# Altium schematic symbol library Resistors$.SchLib: 1243 symbols (part 2 of 7)
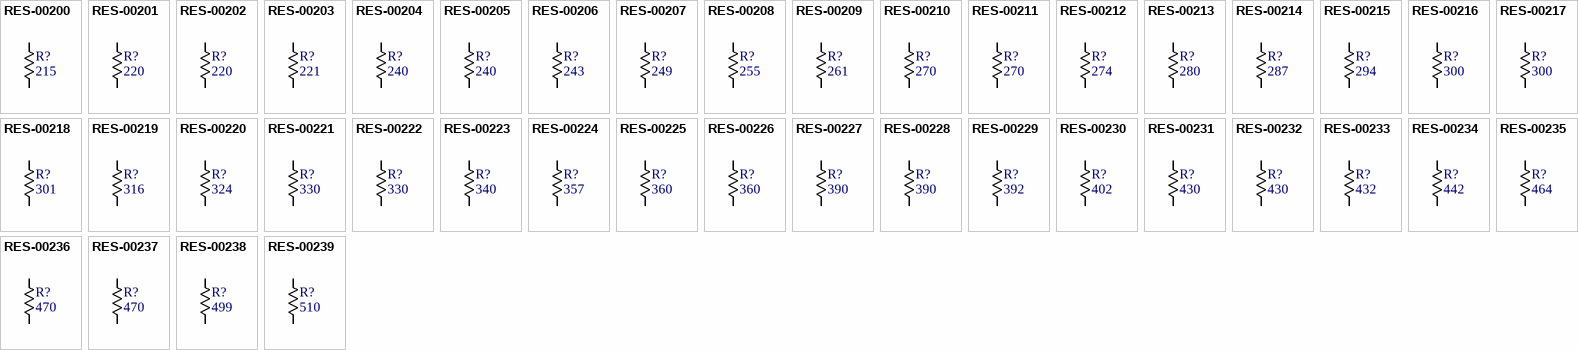
[diagram p33: symbols RES-00200 to RES-00239]

## RES-00209
designator R?, comment 261
RES SMD 261 OHM 1% 1/8W 0805; Part Number: RES-00209; Manufacturer: Rohm Semiconductor; Manufacturer PN: KTR10EZPF2610; Power Rating: 0.125W; Resistance: 261; Tolerance: 1%
footprint chip_0805
pins: 1, 2

## RES-00210
designator R?, comment 270
RES SMD 270 OHM 1% 1/4W 0603; Part Number: RES-00210; Manufacturer: Panasonic; Manufacturer PN: ERJ-PA3F2700V; Power Rating: 0.25W; Resistance: 270; Tolerance: 1%
footprint chip_0603
pins: 1, 2

## RES-00211
designator R?, comment 270
RES SMD 270 OHM 1% 1/8W 0805; Part Number: RES-00211; Manufacturer: Rohm Semiconductor; Manufacturer PN: KTR10EZPF2700; Power Rating: 0.125W; Resistance: 270; Tolerance: 1%
footprint chip_0805
pins: 1, 2

## RES-00212
designator R?, comment 274
RES SMD 274 OHM 1% 1/8W 0805; Part Number: RES-00212; Manufacturer: Rohm Semiconductor; Manufacturer PN: KTR10EZPF2740; Power Rating: 0.125W; Resistance: 274; Tolerance: 1%
footprint chip_0805
pins: 1, 2

## RES-00213
designator R?, comment 280
RES SMD 280 OHM 1% 1/8W 0805; Part Number: RES-00213; Manufacturer: Rohm Semiconductor; Manufacturer PN: KTR10EZPF2800; Power Rating: 0.125W; Resistance: 280; Tolerance: 1%
footprint chip_0805
pins: 1, 2

## RES-00214
designator R?, comment 287
RES SMD 287 OHM 1% 1/8W 0805; Part Number: RES-00214; Manufacturer: Rohm Semiconductor; Manufacturer PN: KTR10EZPF2870; Power Rating: 0.125W; Resistance: 287; Tolerance: 1%
footprint chip_0805
pins: 1, 2

## RES-00215
designator R?, comment 294
RES SMD 294 OHM 1% 1/8W 0805; Part Number: RES-00215; Manufacturer: Rohm Semiconductor; Manufacturer PN: KTR10EZPF2940; Power Rating: 0.125W; Resistance: 294; Tolerance: 1%
footprint chip_0805
pins: 1, 2

## RES-00216
designator R?, comment 300
RES SMD 300 OHM 1% 1/4W 0603; Part Number: RES-00216; Manufacturer: Panasonic; Manufacturer PN: ERJ-PA3F3000V; Power Rating: 0.25W; Resistance: 300; Tolerance: 1%
footprint chip_0603
pins: 1, 2

## RES-00217
designator R?, comment 300
RES SMD 300 OHM 1% 1/8W 0805; Part Number: RES-00217; Manufacturer: Rohm Semiconductor; Manufacturer PN: KTR10EZPF3000; Power Rating: 0.125W; Resistance: 300; Tolerance: 1%
footprint chip_0805
pins: 1, 2

## RES-00218
designator R?, comment 301
RES SMD 301 OHM 1% 1/8W 0805; Part Number: RES-00218; Manufacturer: Rohm Semiconductor; Manufacturer PN: KTR10EZPF3010; Power Rating: 0.125W; Resistance: 301; Tolerance: 1%
footprint chip_0805
pins: 1, 2

## RES-00219
designator R?, comment 316
RES SMD 316 OHM 1% 1/8W 0805; Part Number: RES-00219; Manufacturer: Rohm Semiconductor; Manufacturer PN: KTR10EZPF3160; Power Rating: 0.125W; Resistance: 316; Tolerance: 1%
footprint chip_0805
pins: 1, 2

## RES-00220
designator R?, comment 324
RES SMD 324 OHM 1% 1/8W 0805; Part Number: RES-00220; Manufacturer: Rohm Semiconductor; Manufacturer PN: KTR10EZPF3240; Power Rating: 0.125W; Resistance: 324; Tolerance: 1%
footprint chip_0805
pins: 1, 2

## RES-00221
designator R?, comment 330
RES SMD 330 OHM 1% 1/4W 0603; Part Number: RES-00221; Manufacturer: Panasonic; Manufacturer PN: ERJ-PA3F3300V; Power Rating: 0.25W; Resistance: 330; Tolerance: 1%
footprint chip_0603
pins: 1, 2

## RES-00222
designator R?, comment 330
RES SMD 330 OHM 1% 1/8W 0805; Part Number: RES-00222; Manufacturer: Rohm Semiconductor; Manufacturer PN: KTR10EZPF3300; Power Rating: 0.125W; Resistance: 330; Tolerance: 1%
footprint chip_0805
pins: 1, 2

## RES-00223
designator R?, comment 340
RES SMD 340 OHM 1% 1/8W 0805; Part Number: RES-00223; Manufacturer: Rohm Semiconductor; Manufacturer PN: KTR10EZPF3400; Power Rating: 0.125W; Resistance: 340; Tolerance: 1%
footprint chip_0805
pins: 1, 2

## RES-00224
designator R?, comment 357
RES SMD 357 OHM 1% 1/8W 0805; Part Number: RES-00224; Manufacturer: Rohm Semiconductor; Manufacturer PN: KTR10EZPF3570; Power Rating: 0.125W; Resistance: 357; Tolerance: 1%
footprint chip_0805
pins: 1, 2

## RES-00225
designator R?, comment 360
RES SMD 360 OHM 1% 1/4W 0603; Part Number: RES-00225; Manufacturer: Panasonic; Manufacturer PN: ERJ-PA3F3600V; Power Rating: 0.25W; Resistance: 360; Tolerance: 1%
footprint chip_0603
pins: 1, 2

## RES-00226
designator R?, comment 360
RES SMD 360 OHM 1% 1/8W 0805; Part Number: RES-00226; Manufacturer: Rohm Semiconductor; Manufacturer PN: KTR10EZPF3600; Power Rating: 0.125W; Resistance: 360; Tolerance: 1%
footprint chip_0805
pins: 1, 2

## RES-00227
designator R?, comment 390
RES SMD 390 OHM 1% 1/4W 0603; Part Number: RES-00227; Manufacturer: Panasonic; Manufacturer PN: ERJ-PA3F3900V; Power Rating: 0.25W; Resistance: 390; Tolerance: 1%
footprint chip_0603
pins: 1, 2

## RES-00228
designator R?, comment 390
RES SMD 390 OHM 1% 1/8W 0805; Part Number: RES-00228; Manufacturer: Rohm Semiconductor; Manufacturer PN: KTR10EZPF3900; Power Rating: 0.125W; Resistance: 390; Tolerance: 1%
footprint chip_0805
pins: 1, 2

## RES-00229
designator R?, comment 392
RES SMD 392 OHM 1% 1/8W 0805; Part Number: RES-00229; Manufacturer: Rohm Semiconductor; Manufacturer PN: KTR10EZPF3920; Power Rating: 0.125W; Resistance: 392; Tolerance: 1%
footprint chip_0805
pins: 1, 2

## RES-00230
designator R?, comment 402
RES SMD 402 OHM 1% 1/8W 0805; Part Number: RES-00230; Manufacturer: Rohm Semiconductor; Manufacturer PN: KTR10EZPF4020; Power Rating: 0.125W; Resistance: 402; Tolerance: 1%
footprint chip_0805
pins: 1, 2

## RES-00231
designator R?, comment 430
RES SMD 430 OHM 1% 1/4W 0603; Part Number: RES-00231; Manufacturer: Panasonic; Manufacturer PN: ERJ-PA3F4300V; Power Rating: 0.25W; Resistance: 430; Tolerance: 1%
footprint chip_0603
pins: 1, 2

## RES-00232
designator R?, comment 430
RES SMD 430 OHM 1% 1/8W 0805; Part Number: RES-00232; Manufacturer: Rohm Semiconductor; Manufacturer PN: KTR10EZPF4300; Power Rating: 0.125W; Resistance: 430; Tolerance: 1%
footprint chip_0805
pins: 1, 2

## RES-00233
designator R?, comment 432
RES SMD 432 OHM 1% 1/8W 0805; Part Number: RES-00233; Manufacturer: Rohm Semiconductor; Manufacturer PN: KTR10EZPF4320; Power Rating: 0.125W; Resistance: 432; Tolerance: 1%
footprint chip_0805
pins: 1, 2

## RES-00234
designator R?, comment 442
RES SMD 442 OHM 1% 1/8W 0805; Part Number: RES-00234; Manufacturer: Rohm Semiconductor; Manufacturer PN: KTR10EZPF4420; Power Rating: 0.125W; Resistance: 442; Tolerance: 1%
footprint chip_0805
pins: 1, 2

## RES-00235
designator R?, comment 464
RES SMD 464 OHM 1% 1/8W 0805; Part Number: RES-00235; Manufacturer: Rohm Semiconductor; Manufacturer PN: KTR10EZPF4640; Power Rating: 0.125W; Resistance: 464; Tolerance: 1%
footprint chip_0805
pins: 1, 2

## RES-00236
designator R?, comment 470
RES SMD 470 OHM 1% 1/4W 0603; Part Number: RES-00236; Manufacturer: Panasonic; Manufacturer PN: ERJ-PA3F4700V; Power Rating: 0.25W; Resistance: 470; Tolerance: 1%
footprint chip_0603
pins: 1, 2

## RES-00237
designator R?, comment 470
RES SMD 470 OHM 1% 1/8W 0805; Part Number: RES-00237; Manufacturer: Rohm Semiconductor; Manufacturer PN: KTR10EZPF4700; Power Rating: 0.125W; Resistance: 470; Tolerance: 1%
footprint chip_0805
pins: 1, 2

## RES-00238
designator R?, comment 499
RES SMD 499 OHM 1% 1/8W 0805; Part Number: RES-00238; Manufacturer: Rohm Semiconductor; Manufacturer PN: KTR10EZPF4990; Power Rating: 0.125W; Resistance: 499; Tolerance: 1%
footprint chip_0805
pins: 1, 2

## RES-00239
designator R?, comment 510
RES SMD 510 OHM 1% 1/4W 0603; Part Number: RES-00239; Manufacturer: Panasonic; Manufacturer PN: ERJ-PA3F5100V; Power Rating: 0.25W; Resistance: 510; Tolerance: 1%
footprint chip_0603
pins: 1, 2

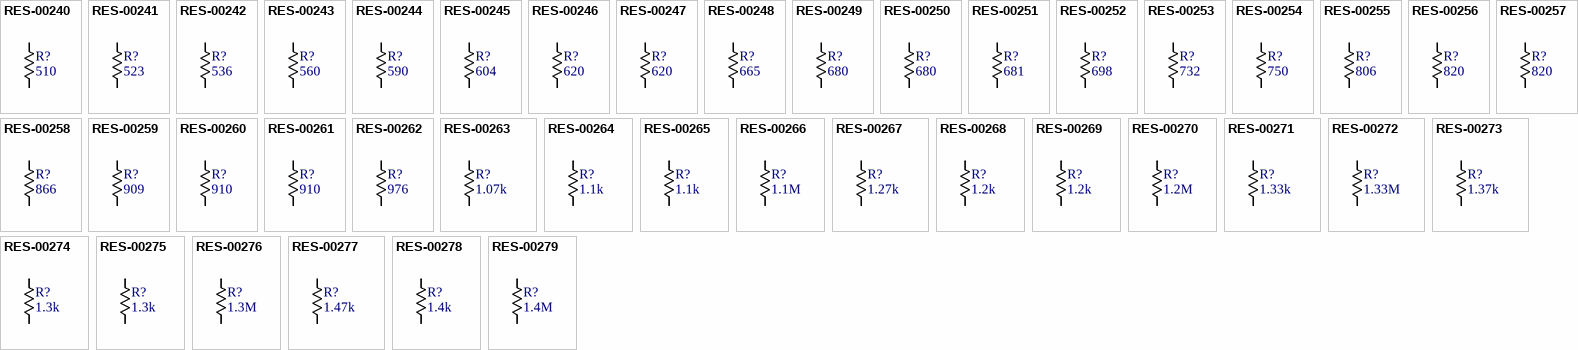
[diagram p6: symbols RES-00240 to RES-00279]

## RES-00240
designator R?, comment 510
RES SMD 510 OHM 1% 1/8W 0805; Part Number: RES-00240; Manufacturer: Rohm Semiconductor; Manufacturer PN: KTR10EZPF5100; Power Rating: 0.125W; Resistance: 510; Tolerance: 1%
footprint chip_0805
pins: 1, 2

## RES-00241
designator R?, comment 523
RES SMD 523 OHM 1% 1/8W 0805; Part Number: RES-00241; Manufacturer: Rohm Semiconductor; Manufacturer PN: KTR10EZPF5230; Power Rating: 0.125W; Resistance: 523; Tolerance: 1%
footprint chip_0805
pins: 1, 2

## RES-00242
designator R?, comment 536
RES SMD 536 OHM 1% 1/8W 0805; Part Number: RES-00242; Manufacturer: Rohm Semiconductor; Manufacturer PN: KTR10EZPF5360; Power Rating: 0.125W; Resistance: 536; Tolerance: 1%
footprint chip_0805
pins: 1, 2

## RES-00243
designator R?, comment 560
RES SMD 560 OHM 1% 1/4W 0603; Part Number: RES-00243; Manufacturer: Panasonic; Manufacturer PN: ERJ-PA3F5600V; Power Rating: 0.25W; Resistance: 560; Tolerance: 1%
footprint chip_0603
pins: 1, 2

## RES-00244
designator R?, comment 590
RES SMD 590 OHM 1% 1/8W 0805; Part Number: RES-00244; Manufacturer: Rohm Semiconductor; Manufacturer PN: KTR10EZPF5900; Power Rating: 0.125W; Resistance: 590; Tolerance: 1%
footprint chip_0805
pins: 1, 2

## RES-00245
designator R?, comment 604
RES SMD 604 OHM 1% 1/8W 0805; Part Number: RES-00245; Manufacturer: Rohm Semiconductor; Manufacturer PN: KTR10EZPF6040; Power Rating: 0.125W; Resistance: 604; Tolerance: 1%
footprint chip_0805
pins: 1, 2

## RES-00246
designator R?, comment 620
RES SMD 620 OHM 1% 1/4W 0603; Part Number: RES-00246; Manufacturer: Panasonic; Manufacturer PN: ERJ-PA3F6200V; Power Rating: 0.25W; Resistance: 620; Tolerance: 1%
footprint chip_0603
pins: 1, 2

## RES-00247
designator R?, comment 620
RES SMD 620 OHM 1% 1/8W 0805; Part Number: RES-00247; Manufacturer: Rohm Semiconductor; Manufacturer PN: KTR10EZPF6200; Power Rating: 0.125W; Resistance: 620; Tolerance: 1%
footprint chip_0805
pins: 1, 2

## RES-00248
designator R?, comment 665
RES SMD 665 OHM 1% 1/8W 0805; Part Number: RES-00248; Manufacturer: Rohm Semiconductor; Manufacturer PN: KTR10EZPF6650; Power Rating: 0.125W; Resistance: 665; Tolerance: 1%
footprint chip_0805
pins: 1, 2

## RES-00249
designator R?, comment 680
RES SMD 680 OHM 1% 1/4W 0603; Part Number: RES-00249; Manufacturer: Panasonic; Manufacturer PN: ERJ-PA3F6800V; Power Rating: 0.25W; Resistance: 680; Tolerance: 1%
footprint chip_0603
pins: 1, 2

## RES-00250
designator R?, comment 680
RES SMD 680 OHM 1% 1/8W 0805; Part Number: RES-00250; Manufacturer: Rohm Semiconductor; Manufacturer PN: KTR10EZPF6800; Power Rating: 0.125W; Resistance: 680; Tolerance: 1%
footprint chip_0805
pins: 1, 2

## RES-00251
designator R?, comment 681
RES SMD 681 OHM 1% 1/8W 0805; Part Number: RES-00251; Manufacturer: Rohm Semiconductor; Manufacturer PN: KTR10EZPF6810; Power Rating: 0.125W; Resistance: 681; Tolerance: 1%
footprint chip_0805
pins: 1, 2

## RES-00252
designator R?, comment 698
RES SMD 698 OHM 1% 1/8W 0805; Part Number: RES-00252; Manufacturer: Rohm Semiconductor; Manufacturer PN: KTR10EZPF6980; Power Rating: 0.125W; Resistance: 698; Tolerance: 1%
footprint chip_0805
pins: 1, 2

## RES-00253
designator R?, comment 732
RES SMD 732 OHM 1% 1/8W 0805; Part Number: RES-00253; Manufacturer: Rohm Semiconductor; Manufacturer PN: KTR10EZPF7320; Power Rating: 0.125W; Resistance: 732; Tolerance: 1%
footprint chip_0805
pins: 1, 2

## RES-00254
designator R?, comment 750
RES SMD 750 OHM 1% 1/4W 0603; Part Number: RES-00254; Manufacturer: Panasonic; Manufacturer PN: ERJ-PA3F7500V; Power Rating: 0.25W; Resistance: 750; Tolerance: 1%
footprint chip_0603
pins: 1, 2

## RES-00255
designator R?, comment 806
RES SMD 806 OHM 1% 1/8W 0805; Part Number: RES-00255; Manufacturer: Rohm Semiconductor; Manufacturer PN: KTR10EZPF8060; Power Rating: 0.125W; Resistance: 806; Tolerance: 1%
footprint chip_0805
pins: 1, 2

## RES-00256
designator R?, comment 820
RES SMD 820 OHM 1% 1/4W 0603; Part Number: RES-00256; Manufacturer: Panasonic; Manufacturer PN: ERJ-PA3F8200V; Power Rating: 0.25W; Resistance: 820; Tolerance: 1%
footprint chip_0603
pins: 1, 2

## RES-00257
designator R?, comment 820
RES SMD 820 OHM 1% 1/8W 0805; Part Number: RES-00257; Manufacturer: Rohm Semiconductor; Manufacturer PN: KTR10EZPF8200; Power Rating: 0.125W; Resistance: 820; Tolerance: 1%
footprint chip_0805
pins: 1, 2

## RES-00258
designator R?, comment 866
RES SMD 866 OHM 1% 1/8W 0805; Part Number: RES-00258; Manufacturer: Rohm Semiconductor; Manufacturer PN: KTR10EZPF8660; Power Rating: 0.125W; Resistance: 866; Tolerance: 1%
footprint chip_0805
pins: 1, 2

## RES-00259
designator R?, comment 909
RES SMD 909 OHM 1% 1/8W 0805; Part Number: RES-00259; Manufacturer: Rohm Semiconductor; Manufacturer PN: KTR10EZPF9090; Power Rating: 0.125W; Resistance: 909; Tolerance: 1%
footprint chip_0805
pins: 1, 2

## RES-00260
designator R?, comment 910
RES SMD 910 OHM 1% 1/4W 0603; Part Number: RES-00260; Manufacturer: Panasonic; Manufacturer PN: ERJ-PA3F9100V; Power Rating: 0.25W; Resistance: 910; Tolerance: 1%
footprint chip_0603
pins: 1, 2

## RES-00261
designator R?, comment 910
RES SMD 910 OHM 1% 1/8W 0805; Part Number: RES-00261; Manufacturer: Rohm Semiconductor; Manufacturer PN: KTR10EZPF9100; Power Rating: 0.125W; Resistance: 910; Tolerance: 1%
footprint chip_0805
pins: 1, 2

## RES-00262
designator R?, comment 976
RES SMD 976 OHM 1% 1/8W 0805; Part Number: RES-00262; Manufacturer: Rohm Semiconductor; Manufacturer PN: KTR10EZPF9760; Power Rating: 0.125W; Resistance: 976; Tolerance: 1%
footprint chip_0805
pins: 1, 2

## RES-00263
designator R?, comment 1.07k
RES SMD 1.07K OHM 1% 1/8W 0805; Part Number: RES-00263; Manufacturer: Rohm Semiconductor; Manufacturer PN: KTR10EZPF1071; Power Rating: 0.125W; Resistance: 1.07k; Tolerance: 1%
footprint chip_0805
pins: 1, 2

## RES-00264
designator R?, comment 1.1k
RES SMD 1.1K OHM 1% 1/4W 0603; Part Number: RES-00264; Manufacturer: Panasonic; Manufacturer PN: ERJ-PA3F1101V; Power Rating: 0.25W; Resistance: 1.1k; Tolerance: 1%
footprint chip_0603
pins: 1, 2

## RES-00265
designator R?, comment 1.1k
RES SMD 1.1K OHM 1% 1/8W 0805; Part Number: RES-00265; Manufacturer: Rohm Semiconductor; Manufacturer PN: KTR10EZPF1101; Power Rating: 0.125W; Resistance: 1.1k; Tolerance: 1%
footprint chip_0805
pins: 1, 2

## RES-00266
designator R?, comment 1.1M
RES SMD 1.1M OHM 1% 1/8W 0805; Part Number: RES-00266; Manufacturer: Rohm Semiconductor; Manufacturer PN: KTR10EZPF1104; Power Rating: 0.125W; Resistance: 1.1M; Tolerance: 1%
footprint chip_0805
pins: 1, 2

## RES-00267
designator R?, comment 1.27k
RES SMD 1.27K OHM 1% 1/8W 0805; Part Number: RES-00267; Manufacturer: Rohm Semiconductor; Manufacturer PN: KTR10EZPF1271; Power Rating: 0.125W; Resistance: 1.27k; Tolerance: 1%
footprint chip_0805
pins: 1, 2

## RES-00268
designator R?, comment 1.2k
RES SMD 1.2K OHM 1% 1/4W 0603; Part Number: RES-00268; Manufacturer: Panasonic; Manufacturer PN: ERJ-PA3F1201V; Power Rating: 0.25W; Resistance: 1.2k; Tolerance: 1%
footprint chip_0603
pins: 1, 2

## RES-00269
designator R?, comment 1.2k
RES SMD 1.2K OHM 1% 1/8W 0805; Part Number: RES-00269; Manufacturer: Rohm Semiconductor; Manufacturer PN: KTR10EZPF1201; Power Rating: 0.125W; Resistance: 1.2k; Tolerance: 1%
footprint chip_0805
pins: 1, 2

## RES-00270
designator R?, comment 1.2M
RES SMD 1.2M OHM 1% 1/8W 0805; Part Number: RES-00270; Manufacturer: Rohm Semiconductor; Manufacturer PN: KTR10EZPF1204; Power Rating: 0.125W; Resistance: 1.2M; Tolerance: 1%
footprint chip_0805
pins: 1, 2

## RES-00271
designator R?, comment 1.33k
RES SMD 1.33K OHM 1% 1/8W 0805; Part Number: RES-00271; Manufacturer: Rohm Semiconductor; Manufacturer PN: KTR10EZPF1331; Power Rating: 0.125W; Resistance: 1.33k; Tolerance: 1%
footprint chip_0805
pins: 1, 2

## RES-00272
designator R?, comment 1.33M
RES SMD 1.33M OHM 1% 1/8W 0805; Part Number: RES-00272; Manufacturer: Rohm Semiconductor; Manufacturer PN: KTR10EZPF1334; Power Rating: 0.125W; Resistance: 1.33M; Tolerance: 1%
footprint chip_0805
pins: 1, 2

## RES-00273
designator R?, comment 1.37k
RES SMD 1.37K OHM 1% 1/8W 0805; Part Number: RES-00273; Manufacturer: Rohm Semiconductor; Manufacturer PN: KTR10EZPF1371; Power Rating: 0.125W; Resistance: 1.37k; Tolerance: 1%
footprint chip_0805
pins: 1, 2

## RES-00274
designator R?, comment 1.3k
RES SMD 1.3K OHM 1% 1/4W 0603; Part Number: RES-00274; Manufacturer: Panasonic; Manufacturer PN: ERJ-PA3F1301V; Power Rating: 0.25W; Resistance: 1.3k; Tolerance: 1%
footprint chip_0603
pins: 1, 2

## RES-00275
designator R?, comment 1.3k
RES SMD 1.3K OHM 1% 1/8W 0805; Part Number: RES-00275; Manufacturer: Rohm Semiconductor; Manufacturer PN: KTR10EZPF1301; Power Rating: 0.125W; Resistance: 1.3k; Tolerance: 1%
footprint chip_0805
pins: 1, 2

## RES-00276
designator R?, comment 1.3M
RES SMD 1.3M OHM 1% 1/8W 0805; Part Number: RES-00276; Manufacturer: Rohm Semiconductor; Manufacturer PN: KTR10EZPF1304; Power Rating: 0.125W; Resistance: 1.3M; Tolerance: 1%
footprint chip_0805
pins: 1, 2

## RES-00277
designator R?, comment 1.47k
RES SMD 1.47K OHM 1% 1/8W 0805; Part Number: RES-00277; Manufacturer: Rohm Semiconductor; Manufacturer PN: KTR10EZPF1471; Power Rating: 0.125W; Resistance: 1.47k; Tolerance: 1%
footprint chip_0805
pins: 1, 2

## RES-00278
designator R?, comment 1.4k
RES SMD 1.4K OHM 1% 1/8W 0805; Part Number: RES-00278; Manufacturer: Rohm Semiconductor; Manufacturer PN: KTR10EZPF1401; Power Rating: 0.125W; Resistance: 1.4k; Tolerance: 1%
footprint chip_0805
pins: 1, 2

## RES-00279
designator R?, comment 1.4M
RES SMD 1.4M OHM 1% 1/8W 0805; Part Number: RES-00279; Manufacturer: Rohm Semiconductor; Manufacturer PN: KTR10EZPF1404; Power Rating: 0.125W; Resistance: 1.4M; Tolerance: 1%
footprint chip_0805
pins: 1, 2

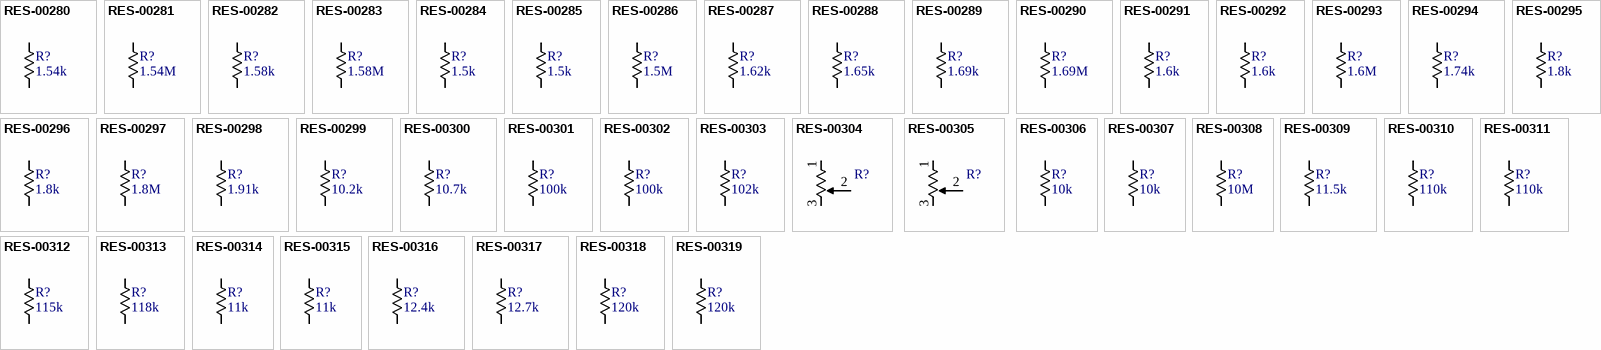
[diagram p7: symbols RES-00280 to RES-00319]

## RES-00280
designator R?, comment 1.54k
RES SMD 1.54K OHM 1% 1/8W 0805; Part Number: RES-00280; Manufacturer: Rohm Semiconductor; Manufacturer PN: KTR10EZPF1541; Power Rating: 0.125W; Resistance: 1.54k; Tolerance: 1%
footprint chip_0805
pins: 1, 2

## RES-00281
designator R?, comment 1.54M
RES SMD 1.54M OHM 1% 1/8W 0805; Part Number: RES-00281; Manufacturer: Rohm Semiconductor; Manufacturer PN: KTR10EZPF1544; Power Rating: 0.125W; Resistance: 1.54M; Tolerance: 1%
footprint chip_0805
pins: 1, 2

## RES-00282
designator R?, comment 1.58k
RES SMD 1.58K OHM 1% 1/8W 0805; Part Number: RES-00282; Manufacturer: Rohm Semiconductor; Manufacturer PN: KTR10EZPF1581; Power Rating: 0.125W; Resistance: 1.58k; Tolerance: 1%
footprint chip_0805
pins: 1, 2

## RES-00283
designator R?, comment 1.58M
RES SMD 1.58M OHM 1% 1/8W 0805; Part Number: RES-00283; Manufacturer: Rohm Semiconductor; Manufacturer PN: KTR10EZPF1584; Power Rating: 0.125W; Resistance: 1.58M; Tolerance: 1%
footprint chip_0805
pins: 1, 2

## RES-00284
designator R?, comment 1.5k
RES SMD 1.5K OHM 1% 1/4W 0603; Part Number: RES-00284; Manufacturer: Panasonic; Manufacturer PN: ERJ-PA3F1501V; Power Rating: 0.25W; Resistance: 1.5k; Tolerance: 1%
footprint chip_0603
pins: 1, 2

## RES-00285
designator R?, comment 1.5k
RES SMD 1.5K OHM 1% 1/8W 0805; Part Number: RES-00285; Manufacturer: Rohm Semiconductor; Manufacturer PN: KTR10EZPF1501; Power Rating: 0.125W; Resistance: 1.5k; Tolerance: 1%
footprint chip_0805
pins: 1, 2

## RES-00286
designator R?, comment 1.5M
RES SMD 1.5M OHM 1% 1/8W 0805; Part Number: RES-00286; Manufacturer: Rohm Semiconductor; Manufacturer PN: KTR10EZPF1504; Power Rating: 0.125W; Resistance: 1.5M; Tolerance: 1%
footprint chip_0805
pins: 1, 2

## RES-00287
designator R?, comment 1.62k
RES SMD 1.62K OHM 1% 1/8W 0805; Part Number: RES-00287; Manufacturer: Rohm Semiconductor; Manufacturer PN: KTR10EZPF1621; Power Rating: 0.125W; Resistance: 1.62k; Tolerance: 1%
footprint chip_0805
pins: 1, 2

## RES-00288
designator R?, comment 1.65k
RES SMD 1.65K OHM 1% 1/8W 0805; Part Number: RES-00288; Manufacturer: Rohm Semiconductor; Manufacturer PN: KTR10EZPF1651; Power Rating: 0.125W; Resistance: 1.65k; Tolerance: 1%
footprint chip_0805
pins: 1, 2

## RES-00289
designator R?, comment 1.69k
RES SMD 1.69K OHM 1% 1/8W 0805; Part Number: RES-00289; Manufacturer: Rohm Semiconductor; Manufacturer PN: KTR10EZPF1691; Power Rating: 0.125W; Resistance: 1.69k; Tolerance: 1%
footprint chip_0805
pins: 1, 2

## RES-00290
designator R?, comment 1.69M
RES SMD 1.69M OHM 1% 1/8W 0805; Part Number: RES-00290; Manufacturer: Rohm Semiconductor; Manufacturer PN: KTR10EZPF1694; Power Rating: 0.125W; Resistance: 1.69M; Tolerance: 1%
footprint chip_0805
pins: 1, 2

## RES-00291
designator R?, comment 1.6k
RES SMD 1.6K OHM 1% 1/4W 0603; Part Number: RES-00291; Manufacturer: Panasonic; Manufacturer PN: ERJ-PA3F1601V; Power Rating: 0.25W; Resistance: 1.6k; Tolerance: 1%
footprint chip_0603
pins: 1, 2

## RES-00292
designator R?, comment 1.6k
RES SMD 1.6K OHM 1% 1/8W 0805; Part Number: RES-00292; Manufacturer: Rohm Semiconductor; Manufacturer PN: KTR10EZPF1601; Power Rating: 0.125W; Resistance: 1.6k; Tolerance: 1%
footprint chip_0805
pins: 1, 2

## RES-00293
designator R?, comment 1.6M
RES SMD 1.6M OHM 1% 1/8W 0805; Part Number: RES-00293; Manufacturer: Rohm Semiconductor; Manufacturer PN: KTR10EZPF1604; Power Rating: 0.125W; Resistance: 1.6M; Tolerance: 1%
footprint chip_0805
pins: 1, 2

## RES-00294
designator R?, comment 1.74k
RES SMD 1.74K OHM 1% 1/8W 0805; Part Number: RES-00294; Manufacturer: Rohm Semiconductor; Manufacturer PN: KTR10EZPF1741; Power Rating: 0.125W; Resistance: 1.74k; Tolerance: 1%
footprint chip_0805
pins: 1, 2

## RES-00295
designator R?, comment 1.8k
RES SMD 1.8K OHM 1% 1/4W 0603; Part Number: RES-00295; Manufacturer: Panasonic; Manufacturer PN: ERJ-PA3F1801V; Power Rating: 0.25W; Resistance: 1.8k; Tolerance: 1%
footprint chip_0603
pins: 1, 2

## RES-00296
designator R?, comment 1.8k
RES SMD 1.8K OHM 1% 1/8W 0805; Part Number: RES-00296; Manufacturer: Rohm Semiconductor; Manufacturer PN: KTR10EZPF1801; Power Rating: 0.125W; Resistance: 1.8k; Tolerance: 1%
footprint chip_0805
pins: 1, 2

## RES-00297
designator R?, comment 1.8M
RES SMD 1.8M OHM 1% 1/8W 0805; Part Number: RES-00297; Manufacturer: Rohm Semiconductor; Manufacturer PN: KTR10EZPF1804; Power Rating: 0.125W; Resistance: 1.8M; Tolerance: 1%
footprint chip_0805
pins: 1, 2

## RES-00298
designator R?, comment 1.91k
RES SMD 1.91K OHM 1% 1/8W 0805; Part Number: RES-00298; Manufacturer: Rohm Semiconductor; Manufacturer PN: KTR10EZPF1911; Power Rating: 0.125W; Resistance: 1.91k; Tolerance: 1%
footprint chip_0805
pins: 1, 2

## RES-00299
designator R?, comment 10.2k
RES SMD 10.2K OHM 1% 1/8W 0805; Part Number: RES-00299; Manufacturer: Rohm Semiconductor; Manufacturer PN: KTR10EZPF1022; Power Rating: 0.125W; Resistance: 10.2k; Tolerance: 1%
footprint chip_0805
pins: 1, 2

## RES-00300
designator R?, comment 10.7k
RES SMD 10.7K OHM 1% 1/8W 0805; Part Number: RES-00300; Manufacturer: Rohm Semiconductor; Manufacturer PN: KTR10EZPF1072; Power Rating: 0.125W; Resistance: 10.7k; Tolerance: 1%
footprint chip_0805
pins: 1, 2

## RES-00301
designator R?, comment 100k
RES SMD 100K OHM 1% 1/4W 0603; Part Number: RES-00301; Manufacturer: Panasonic; Manufacturer PN: ERJ-PA3F1003V; Power Rating: 0.25W; Resistance: 100k; Tolerance: 1%
footprint chip_0603
pins: 1, 2

## RES-00302
designator R?, comment 100k
RES SMD 100K OHM 1% 1/8W 0805; Part Number: RES-00302; Manufacturer: Rohm Semiconductor; Manufacturer PN: KTR10EZPF1003; Power Rating: 0.125W; Resistance: 100k; Tolerance: 1%
footprint chip_0805
pins: 1, 2

## RES-00303
designator R?, comment 102k
RES SMD 102K OHM 1% 1/8W 0805; Part Number: RES-00303; Manufacturer: Rohm Semiconductor; Manufacturer PN: KTR10EZPF1023; Power Rating: 0.125W; Resistance: 102k; Tolerance: 1%
footprint chip_0805
pins: 1, 2

## RES-00304
designator R?, comment res_single_pot  (value not drawn)
VARRES, 10K, 20% 250mW, Thru Hole; Part Number: RES-00304; Manufacturer: Bourns Inc; Manufacturer PN: PTA6043-2015DPB103; Resistance: 10K; Tolerance: 20%; Power Rating: 250mW
footprint PTA6043
pins: 1, 2, 3

## RES-00305
designator R?, comment res_single_pot  (value not drawn)
VARRES, 10K, 20% 250mW, Thru Hole, 1.4"; Part Number: RES-00305; Manufacturer: Bourns Inc; Manufacturer PN: PTA2043-2015CPB103; Resistance: 10K; Tolerance: 20%; Power Rating: 250mW
footprint PTA2043
pins: 1, 2, 3

## RES-00306
designator R?, comment 10k
RES SMD 10K OHM 1% 1/4W 0603; Part Number: RES-00306; Manufacturer: Panasonic; Manufacturer PN: ERJ-PA3F1002V; Power Rating: 0.25W; Resistance: 10k; Tolerance: 1%; Cost: 0.144
footprint chip_0603
pins: 1, 2

## RES-00307
designator R?, comment 10k
RES SMD 10K OHM 1% 1/8W 0805; Part Number: RES-00307; Manufacturer: Rohm Semiconductor; Manufacturer PN: KTR10EZPF1002; Power Rating: 0.125W; Resistance: 10k; Tolerance: 1%
footprint chip_0805
pins: 1, 2

## RES-00308
designator R?, comment 10M
RES SMD 10M OHM 1% 1/8W 0805; Part Number: RES-00308; Manufacturer: Rohm Semiconductor; Manufacturer PN: KTR10EZPF1005; Power Rating: 0.125W; Resistance: 10M; Tolerance: 1%
footprint chip_0805
pins: 1, 2

## RES-00309
designator R?, comment 11.5k
RES SMD 11.5K OHM 1% 1/8W 0805; Part Number: RES-00309; Manufacturer: Rohm Semiconductor; Manufacturer PN: KTR10EZPF1152; Power Rating: 0.125W; Resistance: 11.5k; Tolerance: 1%
footprint chip_0805
pins: 1, 2

## RES-00310
designator R?, comment 110k
RES SMD 110K OHM 1% 1/4W 0603; Part Number: RES-00310; Manufacturer: Panasonic; Manufacturer PN: ERJ-PA3F1103V; Power Rating: 0.25W; Resistance: 110k; Tolerance: 1%
footprint chip_0603
pins: 1, 2

## RES-00311
designator R?, comment 110k
RES SMD 110K OHM 1% 1/8W 0805; Part Number: RES-00311; Manufacturer: Rohm Semiconductor; Manufacturer PN: KTR10EZPF1103; Power Rating: 0.125W; Resistance: 110k; Tolerance: 1%
footprint chip_0805
pins: 1, 2

## RES-00312
designator R?, comment 115k
RES SMD 115K OHM 1% 1/8W 0805; Part Number: RES-00312; Manufacturer: Rohm Semiconductor; Manufacturer PN: KTR10EZPF1153; Power Rating: 0.125W; Resistance: 115k; Tolerance: 1%
footprint chip_0805
pins: 1, 2

## RES-00313
designator R?, comment 118k
RES SMD 118K OHM 1% 1/8W 0805; Part Number: RES-00313; Manufacturer: Rohm Semiconductor; Manufacturer PN: KTR10EZPF1183; Power Rating: 0.125W; Resistance: 118k; Tolerance: 1%
footprint chip_0805
pins: 1, 2

## RES-00314
designator R?, comment 11k
RES SMD 11K OHM 1% 1/4W 0603; Part Number: RES-00314; Manufacturer: Panasonic; Manufacturer PN: ERJ-PA3F1102V; Power Rating: 0.25W; Resistance: 11k; Tolerance: 1%
footprint chip_0603
pins: 1, 2

## RES-00315
designator R?, comment 11k
RES SMD 11K OHM 1% 1/8W 0805; Part Number: RES-00315; Manufacturer: Rohm Semiconductor; Manufacturer PN: KTR10EZPF1102; Power Rating: 0.125W; Resistance: 11k; Tolerance: 1%
footprint chip_0805
pins: 1, 2

## RES-00316
designator R?, comment 12.4k
RES SMD 12.4K OHM 1% 1/8W 0805; Part Number: RES-00316; Manufacturer: Rohm Semiconductor; Manufacturer PN: KTR10EZPF1242; Power Rating: 0.125W; Resistance: 12.4k; Tolerance: 1%
footprint chip_0805
pins: 1, 2

## RES-00317
designator R?, comment 12.7k
RES SMD 12.7K OHM 1% 1/8W 0805; Part Number: RES-00317; Manufacturer: Rohm Semiconductor; Manufacturer PN: KTR10EZPF1272; Power Rating: 0.125W; Resistance: 12.7k; Tolerance: 1%
footprint chip_0805
pins: 1, 2

## RES-00318
designator R?, comment 120k
RES SMD 120K OHM 1% 1/4W 0603; Part Number: RES-00318; Manufacturer: Panasonic; Manufacturer PN: ERJ-PA3F1203V; Power Rating: 0.25W; Resistance: 120k; Tolerance: 1%
footprint chip_0603
pins: 1, 2

## RES-00319
designator R?, comment 120k
RES SMD 120K OHM 1% 1/8W 0805; Part Number: RES-00319; Manufacturer: Rohm Semiconductor; Manufacturer PN: KTR10EZPF1203; Power Rating: 0.125W; Resistance: 120k; Tolerance: 1%
footprint chip_0805
pins: 1, 2

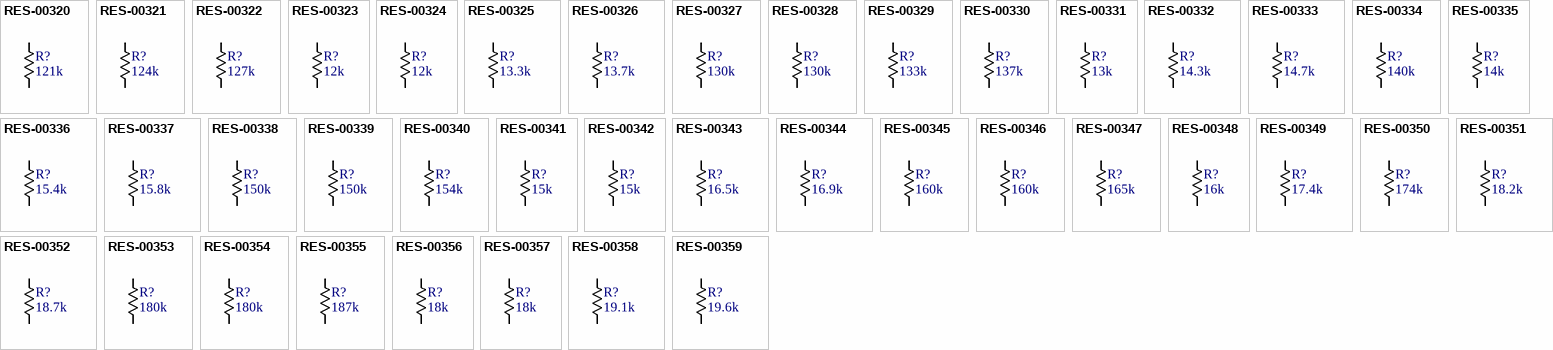
[diagram p8: symbols RES-00320 to RES-00359]

## RES-00320
designator R?, comment 121k
RES SMD 121K OHM 1% 1/8W 0805; Part Number: RES-00320; Manufacturer: Rohm Semiconductor; Manufacturer PN: KTR10EZPF1213; Power Rating: 0.125W; Resistance: 121k; Tolerance: 1%
footprint chip_0805
pins: 1, 2

## RES-00321
designator R?, comment 124k
RES SMD 124K OHM 1% 1/8W 0805; Part Number: RES-00321; Manufacturer: Rohm Semiconductor; Manufacturer PN: KTR10EZPF1243; Power Rating: 0.125W; Resistance: 124k; Tolerance: 1%
footprint chip_0805
pins: 1, 2

## RES-00322
designator R?, comment 127k
RES SMD 127K OHM 1% 1/8W 0805; Part Number: RES-00322; Manufacturer: Rohm Semiconductor; Manufacturer PN: KTR10EZPF1273; Power Rating: 0.125W; Resistance: 127k; Tolerance: 1%
footprint chip_0805
pins: 1, 2

## RES-00323
designator R?, comment 12k
RES SMD 12K OHM 1% 1/4W 0603; Part Number: RES-00323; Manufacturer: Panasonic; Manufacturer PN: ERJ-PA3F1202V; Power Rating: 0.25W; Resistance: 12k; Tolerance: 1%
footprint chip_0603
pins: 1, 2

## RES-00324
designator R?, comment 12k
RES SMD 12K OHM 1% 1/8W 0805; Part Number: RES-00324; Manufacturer: Rohm Semiconductor; Manufacturer PN: KTR10EZPF1202; Power Rating: 0.125W; Resistance: 12k; Tolerance: 1%
footprint chip_0805
pins: 1, 2

## RES-00325
designator R?, comment 13.3k
RES SMD 13.3K OHM 1% 1/8W 0805; Part Number: RES-00325; Manufacturer: Rohm Semiconductor; Manufacturer PN: KTR10EZPF1332; Power Rating: 0.125W; Resistance: 13.3k; Tolerance: 1%
footprint chip_0805
pins: 1, 2

## RES-00326
designator R?, comment 13.7k
RES SMD 13.7K OHM 1% 1/8W 0805; Part Number: RES-00326; Manufacturer: Rohm Semiconductor; Manufacturer PN: KTR10EZPF1372; Power Rating: 0.125W; Resistance: 13.7k; Tolerance: 1%
footprint chip_0805
pins: 1, 2

## RES-00327
designator R?, comment 130k
RES SMD 130K OHM 1% 1/4W 0603; Part Number: RES-00327; Manufacturer: Panasonic; Manufacturer PN: ERJ-PA3F1303V; Power Rating: 0.25W; Resistance: 130k; Tolerance: 1%
footprint chip_0603
pins: 1, 2

## RES-00328
designator R?, comment 130k
RES SMD 130K OHM 1% 1/8W 0805; Part Number: RES-00328; Manufacturer: Rohm Semiconductor; Manufacturer PN: KTR10EZPF1303; Power Rating: 0.125W; Resistance: 130k; Tolerance: 1%
footprint chip_0805
pins: 1, 2

## RES-00329
designator R?, comment 133k
RES SMD 133K OHM 1% 1/8W 0805; Part Number: RES-00329; Manufacturer: Rohm Semiconductor; Manufacturer PN: KTR10EZPF1333; Power Rating: 0.125W; Resistance: 133k; Tolerance: 1%
footprint chip_0805
pins: 1, 2

## RES-00330
designator R?, comment 137k
RES SMD 137K OHM 1% 1/8W 0805; Part Number: RES-00330; Manufacturer: Rohm Semiconductor; Manufacturer PN: KTR10EZPF1373; Power Rating: 0.125W; Resistance: 137k; Tolerance: 1%
footprint chip_0805
pins: 1, 2

## RES-00331
designator R?, comment 13k
RES SMD 13K OHM 1% 1/4W 0603; Part Number: RES-00331; Manufacturer: Panasonic; Manufacturer PN: ERJ-PA3F1302V; Power Rating: 0.25W; Resistance: 13k; Tolerance: 1%
footprint chip_0603
pins: 1, 2

## RES-00332
designator R?, comment 14.3k
RES SMD 14.3K OHM 1% 1/8W 0805; Part Number: RES-00332; Manufacturer: Rohm Semiconductor; Manufacturer PN: KTR10EZPF1432; Power Rating: 0.125W; Resistance: 14.3k; Tolerance: 1%
footprint chip_0805
pins: 1, 2

## RES-00333
designator R?, comment 14.7k
RES SMD 14.7K OHM 1% 1/8W 0805; Part Number: RES-00333; Manufacturer: Rohm Semiconductor; Manufacturer PN: KTR10EZPF1472; Power Rating: 0.125W; Resistance: 14.7k; Tolerance: 1%
footprint chip_0805
pins: 1, 2

## RES-00334
designator R?, comment 140k
RES SMD 140K OHM 1% 1/8W 0805; Part Number: RES-00334; Manufacturer: Rohm Semiconductor; Manufacturer PN: KTR10EZPF1403; Power Rating: 0.125W; Resistance: 140k; Tolerance: 1%
footprint chip_0805
pins: 1, 2

## RES-00335
designator R?, comment 14k
RES SMD 14K OHM 1% 1/8W 0805; Part Number: RES-00335; Manufacturer: Rohm Semiconductor; Manufacturer PN: KTR10EZPF1402; Power Rating: 0.125W; Resistance: 14k; Tolerance: 1%
footprint chip_0805
pins: 1, 2

## RES-00336
designator R?, comment 15.4k
RES SMD 15.4K OHM 1% 1/8W 0805; Part Number: RES-00336; Manufacturer: Rohm Semiconductor; Manufacturer PN: KTR10EZPF1542; Power Rating: 0.125W; Resistance: 15.4k; Tolerance: 1%
footprint chip_0805
pins: 1, 2

## RES-00337
designator R?, comment 15.8k
RES SMD 15.8K OHM 1% 1/8W 0805; Part Number: RES-00337; Manufacturer: Rohm Semiconductor; Manufacturer PN: KTR10EZPF1582; Power Rating: 0.125W; Resistance: 15.8k; Tolerance: 1%
footprint chip_0805
pins: 1, 2

## RES-00338
designator R?, comment 150k
RES SMD 150K OHM 1% 1/4W 0603; Part Number: RES-00338; Manufacturer: Panasonic; Manufacturer PN: ERJ-PA3F1503V; Power Rating: 0.25W; Resistance: 150k; Tolerance: 1%
footprint chip_0603
pins: 1, 2

## RES-00339
designator R?, comment 150k
RES SMD 150K OHM 1% 1/8W 0805; Part Number: RES-00339; Manufacturer: Rohm Semiconductor; Manufacturer PN: KTR10EZPF1503; Power Rating: 0.125W; Resistance: 150k; Tolerance: 1%
footprint chip_0805
pins: 1, 2

## RES-00340
designator R?, comment 154k
RES SMD 154K OHM 1% 1/8W 0805; Part Number: RES-00340; Manufacturer: Rohm Semiconductor; Manufacturer PN: KTR10EZPF1543; Power Rating: 0.125W; Resistance: 154k; Tolerance: 1%
footprint chip_0805
pins: 1, 2

## RES-00341
designator R?, comment 15k
RES SMD 15K OHM 1% 1/4W 0603; Part Number: RES-00341; Manufacturer: Panasonic; Manufacturer PN: ERJ-PA3F1502V; Power Rating: 0.25W; Resistance: 15k; Tolerance: 1%
footprint chip_0603
pins: 1, 2

## RES-00342
designator R?, comment 15k
RES SMD 15K OHM 1% 1/8W 0805; Part Number: RES-00342; Manufacturer: Rohm Semiconductor; Manufacturer PN: KTR10EZPF1502; Power Rating: 0.125W; Resistance: 15k; Tolerance: 1%
footprint chip_0805
pins: 1, 2

## RES-00343
designator R?, comment 16.5k
RES SMD 16.5K OHM 1% 1/8W 0805; Part Number: RES-00343; Manufacturer: Rohm Semiconductor; Manufacturer PN: KTR10EZPF1652; Power Rating: 0.125W; Resistance: 16.5k; Tolerance: 1%
footprint chip_0805
pins: 1, 2

## RES-00344
designator R?, comment 16.9k
RES SMD 16.9K OHM 1% 1/8W 0805; Part Number: RES-00344; Manufacturer: Rohm Semiconductor; Manufacturer PN: KTR10EZPF1692; Power Rating: 0.125W; Resistance: 16.9k; Tolerance: 1%
footprint chip_0805
pins: 1, 2

## RES-00345
designator R?, comment 160k
RES SMD 160K OHM 1% 1/4W 0603; Part Number: RES-00345; Manufacturer: Panasonic; Manufacturer PN: ERJ-PA3F1603V; Power Rating: 0.25W; Resistance: 160k; Tolerance: 1%
footprint chip_0603
pins: 1, 2

## RES-00346
designator R?, comment 160k
RES SMD 160K OHM 1% 1/8W 0805; Part Number: RES-00346; Manufacturer: Rohm Semiconductor; Manufacturer PN: KTR10EZPF1603; Power Rating: 0.125W; Resistance: 160k; Tolerance: 1%
footprint chip_0805
pins: 1, 2

## RES-00347
designator R?, comment 165k
RES SMD 165K OHM 1% 1/8W 0805; Part Number: RES-00347; Manufacturer: Rohm Semiconductor; Manufacturer PN: KTR10EZPF1653; Power Rating: 0.125W; Resistance: 165k; Tolerance: 1%
footprint chip_0805
pins: 1, 2

## RES-00348
designator R?, comment 16k
RES SMD 16K OHM 1% 1/4W 0603; Part Number: RES-00348; Manufacturer: Panasonic; Manufacturer PN: ERJ-PA3F1602V; Power Rating: 0.25W; Resistance: 16k; Tolerance: 1%
footprint chip_0603
pins: 1, 2

## RES-00349
designator R?, comment 17.4k
RES SMD 17.4K OHM 1% 1/8W 0805; Part Number: RES-00349; Manufacturer: Rohm Semiconductor; Manufacturer PN: KTR10EZPF1742; Power Rating: 0.125W; Resistance: 17.4k; Tolerance: 1%
footprint chip_0805
pins: 1, 2

## RES-00350
designator R?, comment 174k
RES SMD 174K OHM 1% 1/8W 0805; Part Number: RES-00350; Manufacturer: Rohm Semiconductor; Manufacturer PN: KTR10EZPF1743; Power Rating: 0.125W; Resistance: 174k; Tolerance: 1%
footprint chip_0805
pins: 1, 2

## RES-00351
designator R?, comment 18.2k
RES SMD 18.2K OHM 1% 1/8W 0805; Part Number: RES-00351; Manufacturer: Rohm Semiconductor; Manufacturer PN: KTR10EZPF1822; Power Rating: 0.125W; Resistance: 18.2k; Tolerance: 1%
footprint chip_0805
pins: 1, 2

## RES-00352
designator R?, comment 18.7k
RES SMD 18.7K OHM 1% 1/8W 0805; Part Number: RES-00352; Manufacturer: Rohm Semiconductor; Manufacturer PN: KTR10EZPF1872; Power Rating: 0.125W; Resistance: 18.7k; Tolerance: 1%
footprint chip_0805
pins: 1, 2

## RES-00353
designator R?, comment 180k
RES SMD 180K OHM 1% 1/4W 0603; Part Number: RES-00353; Manufacturer: Panasonic; Manufacturer PN: ERJ-PA3F1803V; Power Rating: 0.25W; Resistance: 180k; Tolerance: 1%
footprint chip_0603
pins: 1, 2

## RES-00354
designator R?, comment 180k
RES SMD 180K OHM 1% 1/8W 0805; Part Number: RES-00354; Manufacturer: Rohm Semiconductor; Manufacturer PN: KTR10EZPF1803; Power Rating: 0.125W; Resistance: 180k; Tolerance: 1%
footprint chip_0805
pins: 1, 2

## RES-00355
designator R?, comment 187k
RES SMD 187K OHM 1% 1/8W 0805; Part Number: RES-00355; Manufacturer: Rohm Semiconductor; Manufacturer PN: KTR10EZPF1873; Power Rating: 0.125W; Resistance: 187k; Tolerance: 1%
footprint chip_0805
pins: 1, 2

## RES-00356
designator R?, comment 18k
RES SMD 18K OHM 1% 1/4W 0603; Part Number: RES-00356; Manufacturer: Panasonic; Manufacturer PN: ERJ-PA3F1802V; Power Rating: 0.25W; Resistance: 18k; Tolerance: 1%
footprint chip_0603
pins: 1, 2

## RES-00357
designator R?, comment 18k
RES SMD 18K OHM 1% 1/8W 0805; Part Number: RES-00357; Manufacturer: Rohm Semiconductor; Manufacturer PN: KTR10EZPF1802; Power Rating: 0.125W; Resistance: 18k; Tolerance: 1%
footprint chip_0805
pins: 1, 2

## RES-00358
designator R?, comment 19.1k
RES SMD 19.1K OHM 1% 1/8W 0805; Part Number: RES-00358; Manufacturer: Rohm Semiconductor; Manufacturer PN: KTR10EZPF1912; Power Rating: 0.125W; Resistance: 19.1k; Tolerance: 1%
footprint chip_0805
pins: 1, 2

## RES-00359
designator R?, comment 19.6k
RES SMD 19.6K OHM 1% 1/8W 0805; Part Number: RES-00359; Manufacturer: Rohm Semiconductor; Manufacturer PN: KTR10EZPF1962; Power Rating: 0.125W; Resistance: 19.6k; Tolerance: 1%
footprint chip_0805
pins: 1, 2

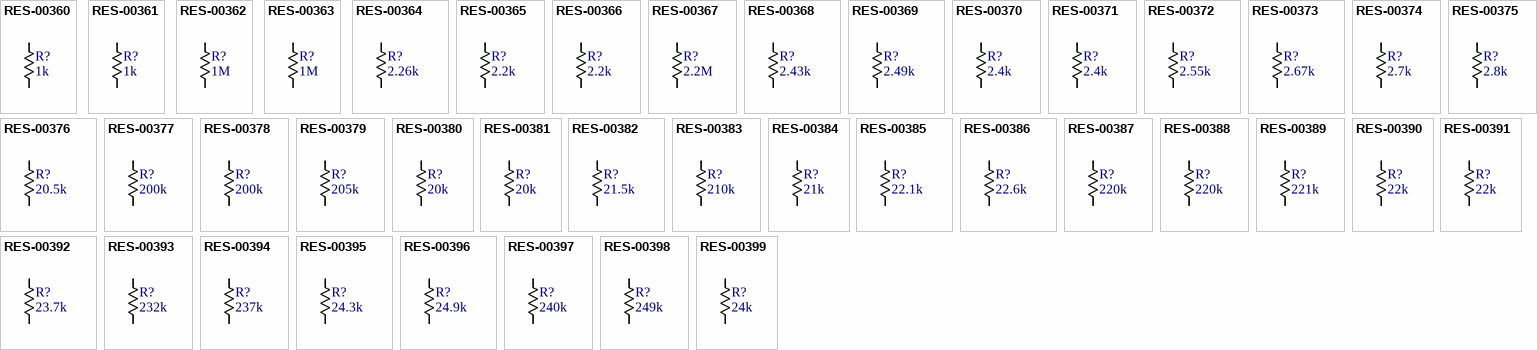
[diagram p9: symbols RES-00360 to RES-00399]

## RES-00360
designator R?, comment 1k
RES SMD 1K OHM 1% 1/4W 0603; Part Number: RES-00360; Manufacturer: Panasonic; Manufacturer PN: ERJ-PA3F1001V; Power Rating: 0.25W; Resistance: 1k; Tolerance: 1%
footprint chip_0603
pins: 1, 2

## RES-00361
designator R?, comment 1k
RES SMD 1K OHM 1% 1/8W 0805; Part Number: RES-00361; Manufacturer: Rohm Semiconductor; Manufacturer PN: KTR10EZPF1001; Power Rating: 0.125W; Resistance: 1k; Tolerance: 1%
footprint chip_0805
pins: 1, 2

## RES-00362
designator R?, comment 1M
RES SMD 1M OHM 1% 1/4W 0603; Part Number: RES-00362; Manufacturer: Panasonic; Manufacturer PN: ERJ-PA3F1004V; Power Rating: 0.25W; Resistance: 1M; Tolerance: 1%
footprint chip_0603
pins: 1, 2

## RES-00363
designator R?, comment 1M
RES SMD 1M OHM 1% 1/8W 0805; Part Number: RES-00363; Manufacturer: Rohm Semiconductor; Manufacturer PN: KTR10EZPF1004; Power Rating: 0.125W; Resistance: 1M; Tolerance: 1%
footprint chip_0805
pins: 1, 2

## RES-00364
designator R?, comment 2.26k
RES SMD 2.26K OHM 1% 1/8W 0805; Part Number: RES-00364; Manufacturer: Rohm Semiconductor; Manufacturer PN: KTR10EZPF2261; Power Rating: 0.125W; Resistance: 2.26k; Tolerance: 1%
footprint chip_0805
pins: 1, 2

## RES-00365
designator R?, comment 2.2k
RES SMD 2.2K OHM 1% 1/4W 0603; Part Number: RES-00365; Manufacturer: Panasonic; Manufacturer PN: ERJ-PA3F2201V; Power Rating: 0.25W; Resistance: 2.2k; Tolerance: 1%
footprint chip_0603
pins: 1, 2

## RES-00366
designator R?, comment 2.2k
RES SMD 2.2K OHM 1% 1/8W 0805; Part Number: RES-00366; Manufacturer: Rohm Semiconductor; Manufacturer PN: KTR10EZPF2201; Power Rating: 0.125W; Resistance: 2.2k; Tolerance: 1%
footprint chip_0805
pins: 1, 2

## RES-00367
designator R?, comment 2.2M
RES SMD 2.2M OHM 1% 1/8W 0805; Part Number: RES-00367; Manufacturer: Rohm Semiconductor; Manufacturer PN: KTR10EZPF2204; Power Rating: 0.125W; Resistance: 2.2M; Tolerance: 1%
footprint chip_0805
pins: 1, 2

## RES-00368
designator R?, comment 2.43k
RES SMD 2.43K OHM 1% 1/8W 0805; Part Number: RES-00368; Manufacturer: Rohm Semiconductor; Manufacturer PN: KTR10EZPF2431; Power Rating: 0.125W; Resistance: 2.43k; Tolerance: 1%
footprint chip_0805
pins: 1, 2

## RES-00369
designator R?, comment 2.49k
RES SMD 2.49K OHM 1% 1/8W 0805; Part Number: RES-00369; Manufacturer: Rohm Semiconductor; Manufacturer PN: KTR10EZPF2491; Power Rating: 0.125W; Resistance: 2.49k; Tolerance: 1%
footprint chip_0805
pins: 1, 2

## RES-00370
designator R?, comment 2.4k
RES SMD 2.4K OHM 1% 1/4W 0603; Part Number: RES-00370; Manufacturer: Panasonic; Manufacturer PN: ERJ-PA3F2401V; Power Rating: 0.25W; Resistance: 2.4k; Tolerance: 1%
footprint chip_0603
pins: 1, 2

## RES-00371
designator R?, comment 2.4k
RES SMD 2.4K OHM 1% 1/8W 0805; Part Number: RES-00371; Manufacturer: Rohm Semiconductor; Manufacturer PN: KTR10EZPF2401; Power Rating: 0.125W; Resistance: 2.4k; Tolerance: 1%
footprint chip_0805
pins: 1, 2

## RES-00372
designator R?, comment 2.55k
RES SMD 2.55K OHM 1% 1/8W 0805; Part Number: RES-00372; Manufacturer: Rohm Semiconductor; Manufacturer PN: KTR10EZPF2551; Power Rating: 0.125W; Resistance: 2.55k; Tolerance: 1%
footprint chip_0805
pins: 1, 2

## RES-00373
designator R?, comment 2.67k
RES SMD 2.67K OHM 1% 1/8W 0805; Part Number: RES-00373; Manufacturer: Rohm Semiconductor; Manufacturer PN: KTR10EZPF2671; Power Rating: 0.125W; Resistance: 2.67k; Tolerance: 1%
footprint chip_0805
pins: 1, 2

## RES-00374
designator R?, comment 2.7k
RES SMD 2.7K OHM 1% 1/4W 0603; Part Number: RES-00374; Manufacturer: Panasonic; Manufacturer PN: ERJ-PA3F2701V; Power Rating: 0.25W; Resistance: 2.7k; Tolerance: 1%
footprint chip_0603
pins: 1, 2

## RES-00375
designator R?, comment 2.8k
RES SMD 2.8K OHM 1% 1/8W 0805; Part Number: RES-00375; Manufacturer: Rohm Semiconductor; Manufacturer PN: KTR10EZPF2801; Power Rating: 0.125W; Resistance: 2.8k; Tolerance: 1%
footprint chip_0805
pins: 1, 2

## RES-00376
designator R?, comment 20.5k
RES SMD 20.5K OHM 1% 1/8W 0805; Part Number: RES-00376; Manufacturer: Rohm Semiconductor; Manufacturer PN: KTR10EZPF2052; Power Rating: 0.125W; Resistance: 20.5k; Tolerance: 1%
footprint chip_0805
pins: 1, 2

## RES-00377
designator R?, comment 200k
RES SMD 200K OHM 1% 1/4W 0603; Part Number: RES-00377; Manufacturer: Panasonic; Manufacturer PN: ERJ-PA3F2003V; Power Rating: 0.25W; Resistance: 200k; Tolerance: 1%
footprint chip_0603
pins: 1, 2

## RES-00378
designator R?, comment 200k
RES SMD 200K OHM 1% 1/8W 0805; Part Number: RES-00378; Manufacturer: Rohm Semiconductor; Manufacturer PN: KTR10EZPF2003; Power Rating: 0.125W; Resistance: 200k; Tolerance: 1%
footprint chip_0805
pins: 1, 2

## RES-00379
designator R?, comment 205k
RES SMD 205K OHM 1% 1/8W 0805; Part Number: RES-00379; Manufacturer: Rohm Semiconductor; Manufacturer PN: KTR10EZPF2053; Power Rating: 0.125W; Resistance: 205k; Tolerance: 1%
footprint chip_0805
pins: 1, 2

## RES-00380
designator R?, comment 20k
RES SMD 20K OHM 1% 1/4W 0603; Part Number: RES-00380; Manufacturer: Panasonic; Manufacturer PN: ERJ-PA3F2002V; Power Rating: 0.25W; Resistance: 20k; Tolerance: 1%
footprint chip_0603
pins: 1, 2

## RES-00381
designator R?, comment 20k
RES SMD 20K OHM 1% 1/8W 0805; Part Number: RES-00381; Manufacturer: Rohm Semiconductor; Manufacturer PN: KTR10EZPF2002; Power Rating: 0.125W; Resistance: 20k; Tolerance: 1%
footprint chip_0805
pins: 1, 2

## RES-00382
designator R?, comment 21.5k
RES SMD 21.5K OHM 1% 1/8W 0805; Part Number: RES-00382; Manufacturer: Rohm Semiconductor; Manufacturer PN: KTR10EZPF2152; Power Rating: 0.125W; Resistance: 21.5k; Tolerance: 1%
footprint chip_0805
pins: 1, 2

## RES-00383
designator R?, comment 210k
RES SMD 210K OHM 1% 1/8W 0805; Part Number: RES-00383; Manufacturer: Rohm Semiconductor; Manufacturer PN: KTR10EZPF2103; Power Rating: 0.125W; Resistance: 210k; Tolerance: 1%
footprint chip_0805
pins: 1, 2

## RES-00384
designator R?, comment 21k
RES SMD 21K OHM 1% 1/8W 0805; Part Number: RES-00384; Manufacturer: Rohm Semiconductor; Manufacturer PN: KTR10EZPF2102; Power Rating: 0.125W; Resistance: 21k; Tolerance: 1%
footprint chip_0805
pins: 1, 2

## RES-00385
designator R?, comment 22.1k
RES SMD 22.1K OHM 1% 1/8W 0805; Part Number: RES-00385; Manufacturer: Rohm Semiconductor; Manufacturer PN: KTR10EZPF2212; Power Rating: 0.125W; Resistance: 22.1k; Tolerance: 1%
footprint chip_0805
pins: 1, 2

## RES-00386
designator R?, comment 22.6k
RES SMD 22.6K OHM 1% 1/8W 0805; Part Number: RES-00386; Manufacturer: Rohm Semiconductor; Manufacturer PN: KTR10EZPF2262; Power Rating: 0.125W; Resistance: 22.6k; Tolerance: 1%
footprint chip_0805
pins: 1, 2

## RES-00387
designator R?, comment 220k
RES SMD 220K OHM 1% 1/4W 0603; Part Number: RES-00387; Manufacturer: Panasonic; Manufacturer PN: ERJ-PA3F2203V; Power Rating: 0.25W; Resistance: 220k; Tolerance: 1%
footprint chip_0603
pins: 1, 2

## RES-00388
designator R?, comment 220k
RES SMD 220K OHM 1% 1/8W 0805; Part Number: RES-00388; Manufacturer: Rohm Semiconductor; Manufacturer PN: KTR10EZPF2203; Power Rating: 0.125W; Resistance: 220k; Tolerance: 1%
footprint chip_0805
pins: 1, 2

## RES-00389
designator R?, comment 221k
RES SMD 221K OHM 1% 1/8W 0805; Part Number: RES-00389; Manufacturer: Rohm Semiconductor; Manufacturer PN: KTR10EZPF2213; Power Rating: 0.125W; Resistance: 221k; Tolerance: 1%
footprint chip_0805
pins: 1, 2

## RES-00390
designator R?, comment 22k
RES SMD 22K OHM 1% 1/4W 0603; Part Number: RES-00390; Manufacturer: Panasonic; Manufacturer PN: ERJ-PA3F2202V; Power Rating: 0.25W; Resistance: 22k; Tolerance: 1%
footprint chip_0603
pins: 1, 2

## RES-00391
designator R?, comment 22k
RES SMD 22K OHM 1% 1/8W 0805; Part Number: RES-00391; Manufacturer: Rohm Semiconductor; Manufacturer PN: KTR10EZPF2202; Power Rating: 0.125W; Resistance: 22k; Tolerance: 1%
footprint chip_0805
pins: 1, 2

## RES-00392
designator R?, comment 23.7k
RES SMD 23.7K OHM 1% 1/8W 0805; Part Number: RES-00392; Manufacturer: Rohm Semiconductor; Manufacturer PN: KTR10EZPF2372; Power Rating: 0.125W; Resistance: 23.7k; Tolerance: 1%
footprint chip_0805
pins: 1, 2

## RES-00393
designator R?, comment 232k
RES SMD 232K OHM 1% 1/8W 0805; Part Number: RES-00393; Manufacturer: Rohm Semiconductor; Manufacturer PN: KTR10EZPF2323; Power Rating: 0.125W; Resistance: 232k; Tolerance: 1%
footprint chip_0805
pins: 1, 2

## RES-00394
designator R?, comment 237k
RES SMD 237K OHM 1% 1/8W 0805; Part Number: RES-00394; Manufacturer: Rohm Semiconductor; Manufacturer PN: KTR10EZPF2373; Power Rating: 0.125W; Resistance: 237k; Tolerance: 1%
footprint chip_0805
pins: 1, 2

## RES-00395
designator R?, comment 24.3k
RES SMD 24.3K OHM 1% 1/8W 0805; Part Number: RES-00395; Manufacturer: Rohm Semiconductor; Manufacturer PN: KTR10EZPF2432; Power Rating: 0.125W; Resistance: 24.3k; Tolerance: 1%
footprint chip_0805
pins: 1, 2

## RES-00396
designator R?, comment 24.9k
RES SMD 24.9K OHM 1% 1/8W 0805; Part Number: RES-00396; Manufacturer: Rohm Semiconductor; Manufacturer PN: KTR10EZPF2492; Power Rating: 0.125W; Resistance: 24.9k; Tolerance: 1%
footprint chip_0805
pins: 1, 2

## RES-00397
designator R?, comment 240k
RES SMD 240K OHM 1% 1/4W 0603; Part Number: RES-00397; Manufacturer: Panasonic; Manufacturer PN: ERJ-PA3F2403V; Power Rating: 0.25W; Resistance: 240k; Tolerance: 1%
footprint chip_0603
pins: 1, 2

## RES-00398
designator R?, comment 249k
RES SMD 249K OHM 1% 1/8W 0805; Part Number: RES-00398; Manufacturer: Rohm Semiconductor; Manufacturer PN: KTR10EZPF2493; Power Rating: 0.125W; Resistance: 249k; Tolerance: 1%
footprint chip_0805
pins: 1, 2

## RES-00399
designator R?, comment 24k
RES SMD 24K OHM 1% 1/4W 0603; Part Number: RES-00399; Manufacturer: Panasonic; Manufacturer PN: ERJ-PA3F2402V; Power Rating: 0.25W; Resistance: 24k; Tolerance: 1%
footprint chip_0603
pins: 1, 2

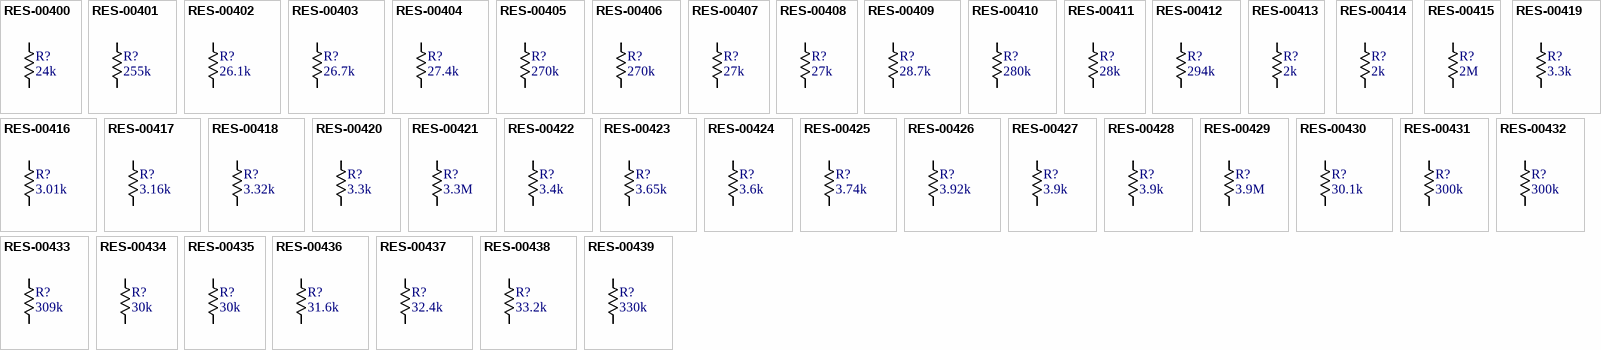
[diagram p10: symbols RES-00400 to RES-00439]

## RES-00400
designator R?, comment 24k
RES SMD 24K OHM 1% 1/8W 0805; Part Number: RES-00400; Manufacturer: Rohm Semiconductor; Manufacturer PN: KTR10EZPF2402; Power Rating: 0.125W; Resistance: 24k; Tolerance: 1%
footprint chip_0805
pins: 1, 2

## RES-00401
designator R?, comment 255k
RES SMD 255K OHM 1% 1/8W 0805; Part Number: RES-00401; Manufacturer: Rohm Semiconductor; Manufacturer PN: KTR10EZPF2553; Power Rating: 0.125W; Resistance: 255k; Tolerance: 1%
footprint chip_0805
pins: 1, 2

## RES-00402
designator R?, comment 26.1k
RES SMD 26.1K OHM 1% 1/8W 0805; Part Number: RES-00402; Manufacturer: Rohm Semiconductor; Manufacturer PN: KTR10EZPF2612; Power Rating: 0.125W; Resistance: 26.1k; Tolerance: 1%
footprint chip_0805
pins: 1, 2

## RES-00403
designator R?, comment 26.7k
RES SMD 26.7K OHM 1% 1/8W 0805; Part Number: RES-00403; Manufacturer: Rohm Semiconductor; Manufacturer PN: KTR10EZPF2672; Power Rating: 0.125W; Resistance: 26.7k; Tolerance: 1%
footprint chip_0805
pins: 1, 2

## RES-00404
designator R?, comment 27.4k
RES SMD 27.4K OHM 1% 1/8W 0805; Part Number: RES-00404; Manufacturer: Rohm Semiconductor; Manufacturer PN: KTR10EZPF2742; Power Rating: 0.125W; Resistance: 27.4k; Tolerance: 1%
footprint chip_0805
pins: 1, 2

## RES-00405
designator R?, comment 270k
RES SMD 270K OHM 1% 1/4W 0603; Part Number: RES-00405; Manufacturer: Panasonic; Manufacturer PN: ERJ-PA3F2703V; Power Rating: 0.25W; Resistance: 270k; Tolerance: 1%
footprint chip_0603
pins: 1, 2

## RES-00406
designator R?, comment 270k
RES SMD 270K OHM 1% 1/8W 0805; Part Number: RES-00406; Manufacturer: Rohm Semiconductor; Manufacturer PN: KTR10EZPF2703; Power Rating: 0.125W; Resistance: 270k; Tolerance: 1%
footprint chip_0805
pins: 1, 2

## RES-00407
designator R?, comment 27k
RES SMD 27K OHM 1% 1/4W 0603; Part Number: RES-00407; Manufacturer: Panasonic; Manufacturer PN: ERJ-PA3F2702V; Power Rating: 0.25W; Resistance: 27k; Tolerance: 1%
footprint chip_0603
pins: 1, 2

## RES-00408
designator R?, comment 27k
RES SMD 27K OHM 1% 1/8W 0805; Part Number: RES-00408; Manufacturer: Rohm Semiconductor; Manufacturer PN: KTR10EZPF2702; Power Rating: 0.125W; Resistance: 27k; Tolerance: 1%
footprint chip_0805
pins: 1, 2

## RES-00409
designator R?, comment 28.7k
RES SMD 28.7K OHM 1% 1/8W 0805; Part Number: RES-00409; Manufacturer: Rohm Semiconductor; Manufacturer PN: KTR10EZPF2872; Power Rating: 0.125W; Resistance: 28.7k; Tolerance: 1%
footprint chip_0805
pins: 1, 2

## RES-00410
designator R?, comment 280k
RES SMD 280K OHM 1% 1/8W 0805; Part Number: RES-00410; Manufacturer: Rohm Semiconductor; Manufacturer PN: KTR10EZPF2803; Power Rating: 0.125W; Resistance: 280k; Tolerance: 1%
footprint chip_0805
pins: 1, 2